# Altium schematic symbol library Molex.SchLib: 2 symbols
Pins are listed as number, name and electrical type; pins without a type are passive.

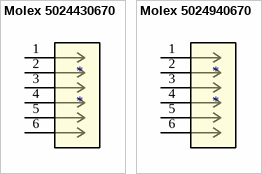
[diagram p0: symbols Molex 5024430670 to Molex 5024940670]

## Molex 5024430670
designator *
footprint Molex 5024430670
pins: 1, 2, 3, 4, 5, 6

## Molex 5024940670
designator *
footprint Molex 5024940670
pins: 1, 2, 3, 4, 5, 6